# EAGLE library part 614108247221 (library EagleLibrary_Wuerth_Elektronik_eiCan_Communication_Connectors_v6_20150113)
WR-COM USB 2.0_Reversible_Type A_Horizontal_THT-WR-COM USB_Reversible_Type A_Horizontal_THT_Black=>Code : Con_I-O_COM_USB-2.0_A_614108247221 <http://katalog.we-online.de/media/images/eican/Con_I-O_COM_USB-2.0_A_614108247221_pf2.jpg> Details see: http://katalog.we-online.de/en/em/614_108_247_221 Created 2014-07-09, Karrer Zheng 2014 (C) Würth Elektronik
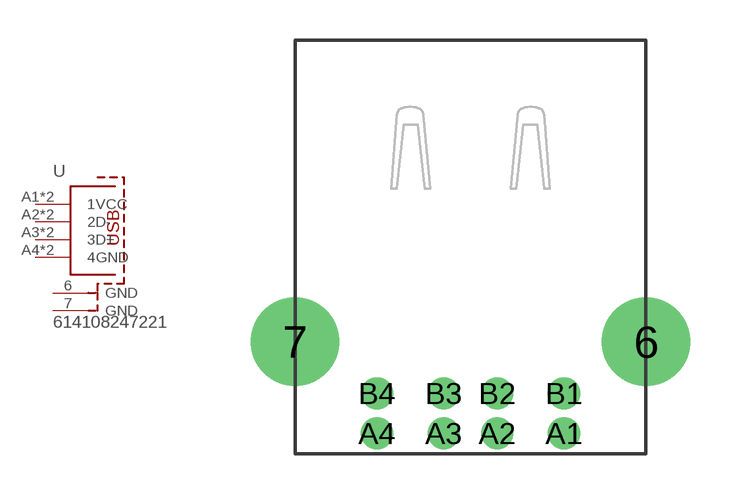
[diagram p145: symbol with the pads of 614108247221; footprint 614108247221]

Designator prefix -

## 614108247221  [614108247221]
6  GND
7  GND
A1  1VCC  pas
A2  2D-  pas
A3  3D+  pas
A4  4GND  pas
B1  1VCC  pas
B2  2D-  pas
B3  3D+  pas
B4  4GND  pas

## Footprint 614108247221 (pad centres in mm)
WR-COM USB 2.0_Reversible_Type A_Horizontal_THT-WR-COM USB_Reversible_Type A_Horizontal_THT_Black
drill 2.3: 6 6.57,0; 7 -6.57,0
drill 0.7: A1 3.5,-3.43; A2 1,-3.43; A3 -1,-3.43; A4 -3.5,-3.43; B1 3.5,-1.93; B2 1,-1.93; B3 -1,-1.93; B4 -3.5,-1.93